# Altium schematic symbol library TJA1052IT-5Y.SchLib: 1 symbol
Pins are listed as number, name and electrical type; pins without a type are passive.

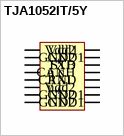
[diagram p0: symbol TJA1052IT/5Y]

## TJA1052IT/5Y
designator *
footprint SOIC16P127_1030X1032X265L75X42N (Small Outline IC (SOIC), 1.27 mm pitch; 16 pin, 10.30 mm L X 7.50 mm W X 2.65 mm H body)
pins: 1 Vdd1 (power), 2 GND1 (power), 3 TXD, 4 n.c., 5 RXD, 6 n.c., 7 GND1 (power), 8 GND1, 9 GND2, 10 GND2, 11 Vdd2 (power), 12 CANL, 13 CANH, 14 STB, 15 GND2 (power), 16 Vdd2 (power)